# Altium schematic symbol library TPS63001.SchLib: 2 symbols
Pins are listed as number, name and electrical type; pins without a type are passive.

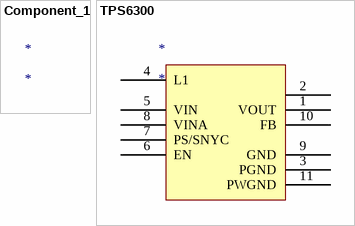
[diagram p0: symbols Component_1 to TPS6300]

## Component_1
designator *

## TPS6300
designator *
pins: 1 VOUT, 2, 3 PGND, 4 L1, 5 VIN, 6 EN, 7 PS/SNYC, 8 VINA, 9 GND, 10 FB, 11 PWGND